# Altium schematic symbol library Diode TH.SchLib: 29 symbols
Pins are listed as number, name and electrical type; pins without a type are passive.

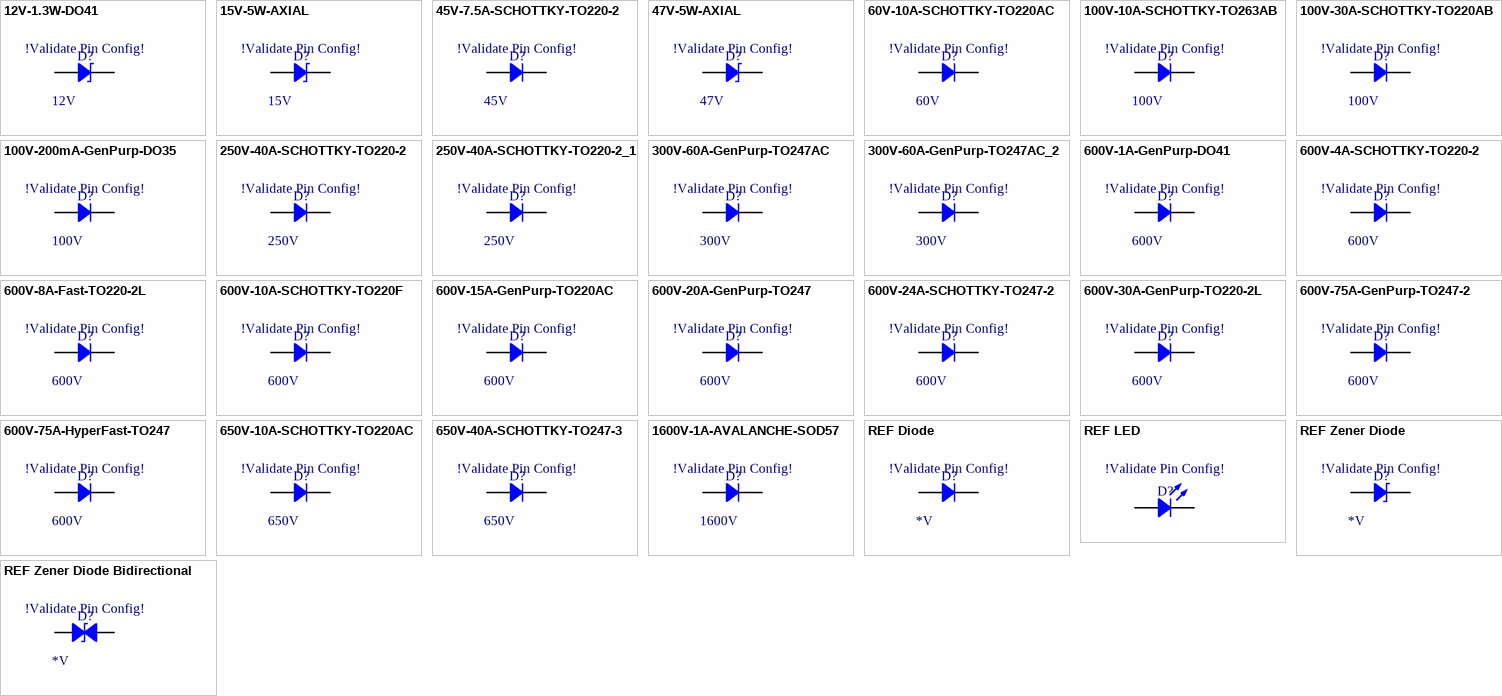
[diagram p0: symbols 12V-1.3W-DO41 to REF Zener Diode Bidirectional]

## 12V-1.3W-DO41
designator D?  VoltageRating: 12V
Zener Diode, 12V Voltage Rating, 1.3W Power Rating, DO41 Package; ManufacturerReference: 1N4742A-TR; InventoryNumber: DIODE011; PackageReference: DO41; Distributor: Digikey; DistributorReference: 1N4742AVSTR-ND; Type: ZENER
pins: 1, 2
text: !Validate Pin Config!

## 15V-5W-AXIAL
designator D?  VoltageRating: 15V
Zener Diode, 15V Voltage Rating, 5W Power Rating, AXIAL Package; ManufacturerReference: 1N5352BRLG; InventoryNumber: DIODE013; PackageReference: AXIAL; Distributor: Digikey; DistributorReference: 1N5352BRLGOSCT-ND; Type: ZENER
pins: 1, 2
text: !Validate Pin Config!

## 45V-7.5A-SCHOTTKY-TO220-2
designator D?  VoltageRating: 45V
Diode, 45V Voltage Rating, 7.5A Current Rating, SCHOTTKY Type, TO220-2 Package; Manufacturer: ON Semiconductor; ManufacturerReference: MBR745G; InventoryNumber: DIODE026; PackageReference: TO220-2; Distributor: Digikey; DistributorReference: MBR745GOS-ND; Type: SCHOTTKY
pins: 1, 2
text: !Validate Pin Config!

## 47V-5W-AXIAL
designator D?  VoltageRating: 47V
Zener Diode, 47V Voltage Rating, 5W Power Rating, AXIAL Package; ManufacturerReference: 1N5368BG; InventoryNumber: DIODE016; PackageReference: AXIAL; Distributor: Digikey; DistributorReference: 1N5368BGOS-ND; Type: ZENER
pins: 1, 2
text: !Validate Pin Config!

## 60V-10A-SCHOTTKY-TO220AC
designator D?  VoltageRating: 60V
Diode, 60V Voltage Rating, 10A Current Rating, SCHOTTKY Type, TO220AC Package; Manufacturer: STMicroelectronics; ManufacturerReference: STPS10L60D; InventoryNumber: DIODE027; PackageReference: 10A; Distributor: Digikey; DistributorReference: 497-7544-5-ND; Type: SCHOTTKY
pins: 1, 2
text: !Validate Pin Config!

## 100V-10A-SCHOTTKY-TO263AB
designator D?  VoltageRating: 100V
Diode, 100V Voltage Rating, 10A Current Rating, SCHOTTKY Type, TO263AB Package; ManufacturerReference: MBRB10100TR; InventoryNumber: DIODE028; PackageReference: TO263AB; Distributor: Digikey; DistributorReference: 1655-1442-6-ND; Type: SCHOTTKY
pins: 1, 2
text: !Validate Pin Config!

## 100V-30A-SCHOTTKY-TO220AB
designator D?  VoltageRating: 100V
Diode, 100V Voltage Rating, 30A Current Rating, SCHOTTKY Type, TO220AB Package; ManufacturerReference: V30100S-E3/4W; InventoryNumber: DIODE029; PackageReference: TO220AB; Distributor: Digikey; DistributorReference: V30100S-E3/4WGI-ND; Type: SCHOTTKY
pins: 1, 2
text: !Validate Pin Config!

## 100V-200mA-GenPurp-DO35
designator D?  VoltageRating: 100V
Diode, 100V Voltage Rating, 200mA Current Rating, General Purpose Type, DO35 Package; ManufacturerReference: 1N914BTR; InventoryNumber: DIODE039; PackageReference: DO35; Distributor: Digikey; DistributorReference: 1N914BCT-ND; Type: General Purpose
pins: 1, 2
text: !Validate Pin Config!

## 250V-40A-SCHOTTKY-TO220-2
designator D?  VoltageRating: 250V
Diode, 250V Voltage Rating, 40A Current Rating, SCHOTTKY Type, Package; ManufacturerReference: MBR40250G; InventoryNumber: DIODE031; PackageReference: TO220-2; Distributor: Digikey; DistributorReference: MBR40250GOS-ND; Type: SCHOTTKY
pins: 1, 2
text: !Validate Pin Config!

## 250V-40A-SCHOTTKY-TO220-2_1
designator D?  VoltageRating: 250V
Diode, 250V Voltage Rating, 40A Current Rating, SCHOTTKY Type, TO220-2 Package; Manufacturer: ON Semiconductor; ManufacturerReference: MBR40250G; InventoryNumber: DIODE030; PackageReference: TO220-2; Distributor: Digikey; DistributorReference: MBR40250GOS-ND; Type: SCHOTTKY
pins: 1, 2
text: !Validate Pin Config!

## 300V-60A-GenPurp-TO247AC
designator D?  VoltageRating: 300V
Diode, 300V Voltage Rating, 60A Current Rating, Type, TO247AC Package; ManufacturerReference: VS-60APH03-N3; InventoryNumber: DIODE041; Type: General Purpose; PackageReference: TO247AC; Distributor: Digikey; DistributorReference: VS-60APH03-N3GI-ND
pins: 1, 2
text: !Validate Pin Config!

## 300V-60A-GenPurp-TO247AC_2
designator D?  VoltageRating: 300V
Diode, 300V Voltage Rating, 60A Current Rating, General Purpose Type, TO247AC Package; ManufacturerReference: VS-60APH03-N3; InventoryNumber: DIODE042; PackageReference: TO247AC; Distributor: Digikey; DistributorReference: VS-60APH03-N3GI-ND; Type: General Purpose
pins: 1, 2
text: !Validate Pin Config!

## 600V-1A-GenPurp-DO41
designator D?  VoltageRating: 600V
Diode, 600V Voltage Rating, 1A Current Rating, General Purpose Type, DO41 Package; ManufacturerReference: MUR160-TP; InventoryNumber: DIODE044; PackageReference: DO41; Distributor: Digikey; DistributorReference: MUR160-TPMSCT-ND; Type: General Purpose
pins: 1, 2
text: !Validate Pin Config!

## 600V-4A-SCHOTTKY-TO220-2
designator D?  VoltageRating: 600V
Diode, 600V Voltage Rating, 4A Current Rating, SCHOTTKY Type, TO220-2 Package; ManufacturerReference: C3D04060A; InventoryNumber: DIODE032; PackageReference: TO220-2; Distributor: Digikey; DistributorReference: C3D04060A-ND; Type: SCHOTTKY
pins: 1, 2
text: !Validate Pin Config!

## 600V-8A-Fast-TO220-2L
designator D?  VoltageRating: 600V
Diode, 600V Voltage Rating, 8A Current Rating, Fast Type, TO220-2L Package; ManufacturerReference: FFP08H60STU; InventoryNumber: DIODE052; PackageReference: TO220-2L; Distributor: Digikey; DistributorReference: FFP08H60STUFS-ND; Type: Fast
pins: 1, 2
text: !Validate Pin Config!

## 600V-10A-SCHOTTKY-TO220F
designator D?  VoltageRating: 600V
Diode, Voltage Rating, Current Rating, SCHOTTKY Type, TO220F Package; ManufacturerReference: FMCA-11065; InventoryNumber: DIODE102; PackageReference: TO220F; Distributor: Digikey; DistributorReference: FMCA-11065-ND; Type: SCHOTTKY
pins: 1, 2
text: !Validate Pin Config!

## 600V-15A-GenPurp-TO220AC
designator D?  VoltageRating: 600V
Diode, 600V Voltage Rating, 15A Current Rating, General Purpose Type, TO220AC Package; ManufacturerReference: ISL9R1560P2_F085; InventoryNumber: DIODE046; Type: SCHOTTKY; PackageReference: TO220AC; Distributor: Digikey; DistributorReference: ISL9R1560P2_F085-ND
pins: 1, 2
text: !Validate Pin Config!

## 600V-20A-GenPurp-TO247
designator D?  VoltageRating: 600V
Diode, 600V Voltage Rating, 20A Current Rating, General Purpose Type, TO247 Package; ManufacturerReference: APT30DS60BG; InventoryNumber: DIODE047; PackageReference: TO247; Distributor: Digikey; DistributorReference: APT30DS60BG-ND; Type: General Purpose
pins: 1, 2
text: !Validate Pin Config!

## 600V-24A-SCHOTTKY-TO247-2
designator D?  VoltageRating: 600V
Diode, 600V Voltage Rating, 24A Current Rating, SCHOTTKY Type, TO247-2 Package; ManufacturerReference: GDP24P060B; InventoryNumber: DIODE033; PackageReference: TO247-2; Distributor: Digikey; DistributorReference: 1560-1022-5-ND; Type: SCHOTTKY
pins: 1, 2
text: !Validate Pin Config!

## 600V-30A-GenPurp-TO220-2L
designator D?  VoltageRating: 600V
Diode, 600V Voltage Rating, 30A Current Rating, General Purpose Type, TO220-2L Package; ManufacturerReference: FFP30S60STU; InventoryNumber: DIODE048; PackageReference: TO220-2L; Distributor: Digikey; DistributorReference: FFP30S60STUFS-ND; Type: General Purpose
pins: 1, 2
text: !Validate Pin Config!

## 600V-75A-GenPurp-TO247-2
designator D?  VoltageRating: 600V
Diode, 600V Voltage Rating, 75A Current Rating, General Purpose Type, TO247-2 Package; ManufacturerReference: FFH75H60S; InventoryNumber: DIODE045; PackageReference: TO247-2; Distributor: Digikey; DistributorReference: FFH75H60S-ND; Type: General Purpose
pins: 1, 2
text: !Validate Pin Config!

## 600V-75A-HyperFast-TO247
designator D?  VoltageRating: 600V
Diode, 600V Voltage Rating, 75A Current Rating, HyperFast Type, TO247 Package; ManufacturerReference: RHRG7560; InventoryNumber: DIODE053; PackageReference: TO247; Distributor: Digikey; DistributorReference: *; Type: HyperFast
pins: 1, 2
text: !Validate Pin Config!

## 650V-10A-SCHOTTKY-TO220AC
designator D?  VoltageRating: 650V
Diode, 650V Voltage Rating, 10A Current Rating, SCHOTTKY Type, TO220AC Package; ManufacturerReference: SCS210AGC; InventoryNumber: DIODE034; PackageReference: TO220AC; Distributor: Digikey; DistributorReference: SCS210AGC-ND; Type: SCHOTTKY
pins: 1, 2
text: !Validate Pin Config!

## 650V-40A-SCHOTTKY-TO247-3
designator D?  VoltageRating: 650V
Diode, 650V Voltage Rating, 40A Current Rating, SCHOTTKY Type, TO247-3 Package; ManufacturerReference: IDW40G65C5FKSA1; InventoryNumber: DIODE035; PackageReference: TO247-3; Distributor: Digikey; DistributorReference: IDW40G65C5FKSA1-ND; Type: SCHOTTKY
pins: 1, 2
text: !Validate Pin Config!

## 1600V-1A-AVALANCHE-SOD57
designator D?  VoltageRating: 1600V
Diode, 1600V Voltage Rating, 1A Current Rating, AVALANCHE Type, SOD57 Package; ManufacturerReference: SF1600-TR; InventoryNumber: DIODE103; PackageReference: SOD57; Distributor: Digikey; DistributorReference: SF1600CT-ND; Type: AVALANCHE
pins: 1, 2
text: !Validate Pin Config!

## REF Diode
designator D?  VoltageRating: *V
Diode, Voltage Rating, Current Rating, Type, Package; PackageReference: *; Distributor: Digikey; DistributorReference: *; InventoryNumber: *; ManufacturerReference: *; Type: *
pins: 1, 2
text: !Validate Pin Config!

## REF LED
designator D?
LED, Color, package; PackageReference: *; Distributor: Digikey; DistributorReference: *; InventoryNumber: *; ManufacturerReference: *; Type: *
pins: 1, 2
text: !Validate Pin Config!

## REF Zener Diode
designator D?  VoltageRating: *V
Zener Diode, Voltage Rating, Power Rating, Package; PackageReference: *; Distributor: Digikey; DistributorReference: *; InventoryNumber: *; ManufacturerReference: *; Type: ZENER
pins: 1, 2
text: !Validate Pin Config!

## REF Zener Diode Bidirectional
designator D?  VoltageRating: *V
Zener Diode Bidirectional, voltage rating, current rating, package; PackageReference: *; Distributor: Digikey; DistributorReference: *; InventoryNumber: *; ManufacturerReference: *; Type: *
pins: 1, 2
text: !Validate Pin Config!